# Altium schematic symbol library BC Family.SchLib: 3 symbols
Pins are listed as number, name and electrical type; pins without a type are passive.

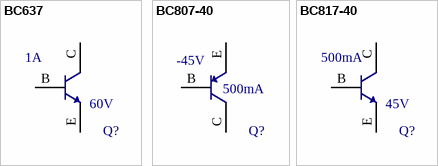
[diagram p0: symbols BC637 to BC817-40]

## BC637
designator Q?  Vce: 60V  Ic: 1A  (hidden comment: BC637)
Bipolar (BJT) Transistor NPN 60V 1A 100MHz 1W Through Hole TO-92-3; Manufacturer 1: ON Semiconductor; Manufacturer 1 PN: BC637_D26Z; Gain: 160; ComponentLink1Description: Datasheet; ComponentLink1URL: https://www.onsemi.com/pub/Collateral/BC817-16LT1-D.PDF; Digikey PN: BC637_D26Z-ND; Mouser PN: BC637_D26Z
footprint BC637 (Bipolar (BJT) Transistor NPN 60V 1A 100MHz 1W Through Hole TO-92-3)
pins: B (power), C (power), E (power)

## BC807-40
designator Q?  Vce: -45V  Ic: 500mA  (hidden comment: BC807-40)
Bipolar (BJT) Transistor PNP 45V 500mA 100MHz 300mW Surface Mount SOT-23-3 (TO-236); Manufacturer 1: Nexperia USA Inc.; Manufacturer 1 PN: BC807-40,235; Gain: 400; ComponentLink1Description: Datasheet; ComponentLink1URL: https://www.onsemi.com/pub/Collateral/BC817-16LT1-D.PDF; Digikey PN: 1727-1875-1-ND; Mouser PN: 771-BC807-40235
footprint BC807-25 (Bipolar (BJT) Transistor PNP 45V 500mA 100MHz 300mW Surface Mount SOT-23-3 (TO-236))
pins: B (power), C (power), E (power)

## BC817-40
designator Q?  Vce: 45V  Ic: 500mA  (hidden comment: BC817-40)
Bipolar (BJT) Transistor NPN 45V 500mA 100MHz 300mW Surface Mount SOT-23-3 (TO-236); Manufacturer 1: Nexperia USA Inc.; Manufacturer 1 PN: BC817-40,235; Gain: 400; ComponentLink1Description: Datasheet; ComponentLink1URL: https://www.onsemi.com/pub/Collateral/BC817-16LT1-D.PDF; Digikey PN: 1727-6186-1-ND; Mouser PN: 771-BC817-40235
footprint BC817-25 (Bipolar (BJT) Transistor NPN 45V 500mA 100MHz 300mW Surface Mount SOT-23-3 (TO-236))
pins: B (power), C (power), E (power)